# EAGLE library part HEADER-1X8 (library microbuilder)
PIN HEADER
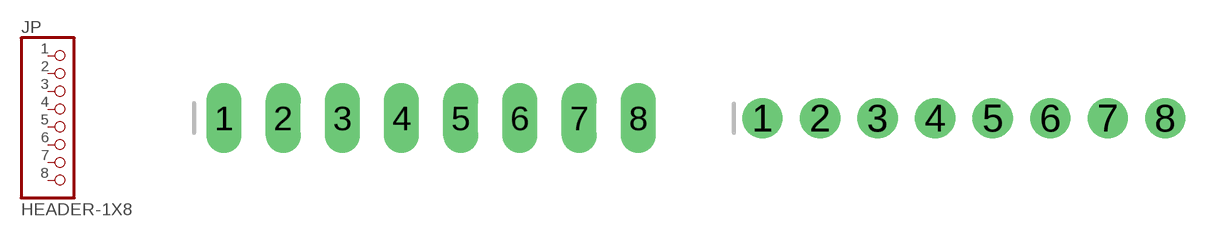
[diagram p0: symbol with the pads of 1X08_OVAL; footprints 1X08_OVAL, 1X08_ROUND_70]

Designator prefix JP

## HEADER-1X8  [1X08_OVAL]
1  1  pas
2  2  pas
3  3  pas
4  4  pas
5  5  pas
6  6  pas
7  7  pas
8  8  pas

## HEADER-1X870MIL  [1X08_ROUND_70]
Pads as for 1X08_OVAL

## HEADER-1X876MIL  [1X08_ROUND_76]
Pads as for 1X08_OVAL

## HEADER-1X8ROUND  [1X08_ROUND]
Pads as for 1X08_OVAL

## HEADER-1X8SMT  [1X08_SMT]
Pads as for 1X08_OVAL

## Footprint 1X08_OVAL (pad centres in mm)
PIN HEADER
drill 1 long: 1 -8.89,0; 2 -6.35,0; 3 -3.81,0; 4 -1.27,0; 5 1.27,0; 6 3.81,0; 7 6.35,0; 8 8.89,0

## Footprint 1X08_ROUND_70 (pad centres in mm)
drill 1 pad 1.778: 1 -8.89,0; 2 -6.35,0; 3 -3.81,0; 4 -1.27,0; 5 1.27,0; 6 3.81,0; 7 6.35,0; 8 8.89,0

## Footprint 1X08_ROUND_76 (pad centres in mm)
drill 1 pad 1.93: 1 -8.89,0; 2 -6.35,0; 3 -3.81,0; 4 -1.27,0; 5 1.27,0; 6 3.81,0; 7 6.35,0; 8 8.89,0

## Footprint 1X08_ROUND (pad centres in mm)
drill 1 pad 1.676: 1 -8.89,0; 2 -6.35,0; 3 -3.81,0; 4 -1.27,0; 5 1.27,0; 6 3.81,0; 7 6.35,0; 8 8.89,0

## Footprint 1X08_SMT (pad centres in mm)
4UCON: 06678
smd 1 x 2.5: 1 -8.89,1.22; 2 -6.35,-1.82; 3 -3.81,1.22; 4 -1.27,-1.82; 5 1.27,1.22; 6 3.81,-1.82; 7 6.35,1.22; 8 8.89,-1.82